# Altium schematic symbol library LDO_LDK320AM36R.Schlib: 1 symbol
Pins are listed as number, name and electrical type; pins without a type are passive.

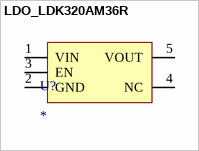
[diagram p0: symbol LDO_LDK320AM36R]

## LDO_LDK320AM36R
designator U?
pins: 1 VIN, 2 GND, 3 EN, 4 NC, 5 VOUT